# Altium footprint library SparkFun-Connectors.PCBLIB: 379 footprints (part 4 of 24)
Each footprint in its own frame and in the unit in brackets; x right, y up, seen from the top. Pads: shape width x height; smd on the part's side, far side on the other; paste and mask are expansions set on the pad; w line width, h text height; cw(c..) or ccw(c..) is an arc to the next point about the centre after c.
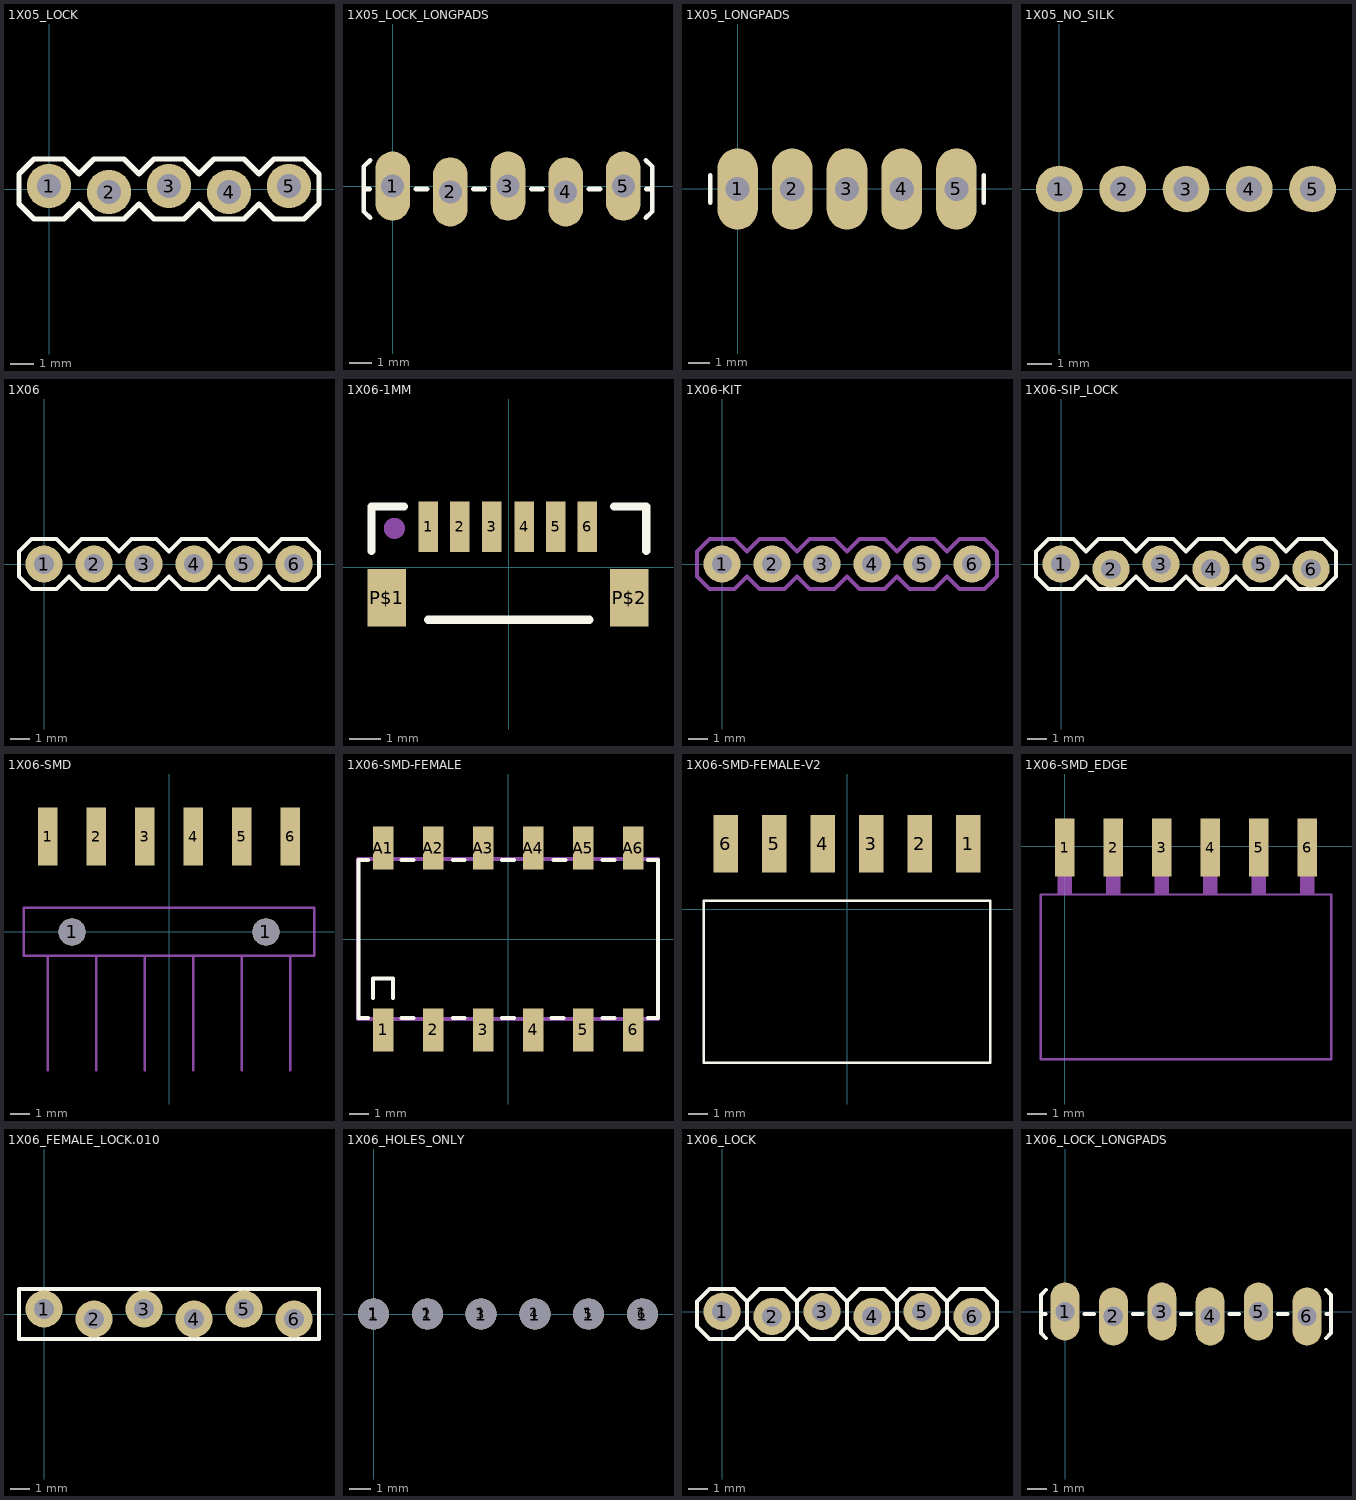
[diagram p3: the footprints below, top view; thin cyan lines are the x and y axes]

## 1X05_LOCK [mil]
pads (5):
  round 74 hole 40: 1(0,5) 2(100,-5) 3(200,5) 4(300,-5) 5(400,5)
Top Overlay:
  lines w8: -50,-25 -50,25 -25,50 25,50 50,25 75,50 125,50 150,25 175,50 225,50 250,25 275,50 325,50 350,25 375,50 425,50 450,25 450,-25 425,-50 375,-50 350,-25 325,-50 275,-50 250,-25 225,-50 175,-50 150,-25 125,-50 75,-50 50,-25 25,-50 -25,-50 -50,-25
Mechanical 2:
  text ">NAME" at -53,72 h77.5
Mechanical 4:
  text ">VALUE" at -50,-125 h77.5
Mechanical 16:
  rectangle: 390,-10 410,10
  rectangle: 290,-10 310,10
  rectangle: 190,-10 210,10
  rectangle: 90,-10 110,10
  rectangle: -10,-10 10,10

## 1X05_LOCK_LONGPADS [mil]
pads (5):
  oval 60x120 hole 40: 1(0,0) 2(100,-10) 3(200,0) 4(300,-10) 5(400,0)
Top Overlay:
  lines w8: -40,-5 -50,-5 ; -39,-55 -50,-44 -50,-5 ; -39,45 -50,34 -50,-5 ; 40,-5 60,-5 ; 140,-5 160,-5 ; 240,-5 260,-5 ; 340,-5 360,-5 ; 439,-55 450,-44 450,-5 ; 439,45 450,34 450,-5 ; 440,-5 450,-5
Mechanical 2:
  text ">NAME" at -50,70 h42.5
Mechanical 4:
  text ">VALUE" at -50,-130 h42.5
Mechanical 16:
  rectangle: -11.5,-16.5 12,7
  rectangle: 89,-16.5 112,7
  rectangle: 189,-16.5 212,7
  region: 312.25,-16.25 312.25,6.75 288.75,6.75 288.75,-16.25
  rectangle: 389,-16.5 412,7

## 1X05_LONGPADS [mil]
pads (5):
  oval 74x148 hole 44: 1(0,0) 2(100,0) 3(200,0) 4(300,0) 5(400,0)
Top Overlay:
  lines w8: -50,-25 -50,25 ; 450,-25 450,25
Mechanical 2:
  text ">NAME" at -53,72 h77.5
Mechanical 4:
  text ">VALUE" at -50,-125 h77.5
Mechanical 16:
  rectangle: 390,-10 410,10
  rectangle: 290,-10 310,10
  rectangle: 190,-10 210,10
  rectangle: 90,-10 110,10
  rectangle: -10,-10 10,10

## 1X05_NO_SILK [mil]
pads (5):
  round 74 hole 40: 1(0,0) 2(100,0) 3(200,0) 4(300,0) 5(400,0)
Mechanical 2:
  text ">NAME" at -53,72 h77.5
Mechanical 4:
  text ">VALUE" at -50,-125 h77.5
Mechanical 16:
  rectangle: 390,-10 410,10
  rectangle: 290,-10 310,10
  rectangle: 190,-10 210,10
  rectangle: 90,-10 110,10
  rectangle: -10,-10 10,10

## 1X06 [mil]
pads (6):
  round 74 hole 40: 1(0,0) 2(100,0) 3(200,0) 4(300,0) 5(400,0) 6(500,0)
Top Overlay:
  lines w8: -50,-25 -50,25 -25,50 25,50 50,25 75,50 125,50 150,25 175,50 225,50 250,25 275,50 325,50 350,25 375,50 425,50 450,25 475,50 525,50 550,25 550,-25 525,-50 475,-50 450,-25 425,-50 375,-50 350,-25 325,-50 275,-50 250,-25 225,-50 175,-50 150,-25 125,-50 75,-50 50,-25 25,-50 -25,-50 -50,-25
Mechanical 2:
  text ">NAME" at -53,72 h77.5
Mechanical 4:
  text ">VALUE" at -50,-125 h77.5
Mechanical 16:
  rectangle: 490,-10 510,10
  rectangle: 390,-10 410,10
  rectangle: 290,-10 310,10
  rectangle: 190,-10 210,10
  rectangle: 90,-10 110,10
  rectangle: -10,-10 10,10

## 1X06-1MM [mil]
pads (8):
  rect 24x62 smd: 1(-100,50) 2(-60.63,50) 3(-21.26,50) 4(19,50) 5(58,50) 6(97,50)
  rect 48x71 smd: P$1(-151.18,-37.6) P$2(149,-37.6)
Top Overlay:
  lines w10: -170,20 -170,75 -130,75 ; -100,-65 100,-65 ; 130,75 170,75 170,20
Mechanical 2:
  text ">Name" at -50,100 h24.8
Mechanical 4:
  text ">VALUE" at -50,-100 h24.8
Mechanical 16:
  circle w16: c-141.73,48 r5

## 1X06-KIT [mil]
pads (6):
  round 74 hole 40: 1(0,0) 2(100,0) 3(200,0) 4(300,0) 5(400,0) 6(500,0)
Top Solder:
  region: 0,0 10,0 10,10 0,10
  region: 0,0 10,0 10,10 0,10
  region: 0,0 10,0 10,10 0,10
  region: 0,0 10,0 10,10 0,10
  region: 0,0 10,0 10,10 0,10
  region: 0,0 10,0 10,10 0,10
Bottom Solder:
  region: 0,0 10,0 10,10 0,10
  region: 0,0 10,0 10,10 0,10
  region: 0,0 10,0 10,10 0,10
  region: 0,0 10,0 10,10 0,10
  region: 0,0 10,0 10,10 0,10
  region: 0,0 10,0 10,10 0,10
Mechanical 2:
  text ">NAME" at -53,72 h77.5
Mechanical 4:
  text ">VALUE" at -50,-125 h77.5
Mechanical 16:
  rectangle: 490,-10 510,10
  rectangle: 390,-10 410,10
  rectangle: 290,-10 310,10
  rectangle: 190,-10 210,10
  rectangle: 90,-10 110,10
  rectangle: -10,-10 10,10
  lines w8: -50,-25 -50,25 -25,50 25,50 50,25 75,50 125,50 150,25 175,50 225,50 250,25 275,50 325,50 350,25 375,50 425,50 450,25 475,50 525,50 550,25 550,-25 525,-50 475,-50 450,-25 425,-50 375,-50 350,-25 325,-50 275,-50 250,-25 225,-50 175,-50 150,-25 125,-50 75,-50 50,-25 25,-50 -25,-50 -50,-25

## 1X06-SIP_LOCK [mil]
pads (6):
  round 74 hole 40: 1(0,0) 2(100,-10) 3(200,0) 4(300,-10) 5(400,0) 6(500,-10)
Top Overlay:
  lines w8: -50,-25 -50,25 -25,50 25,50 50,25 75,50 125,50 150,25 175,50 225,50 250,25 275,50 325,50 350,25 375,50 425,50 450,25 475,50 525,50 550,25 550,-25 525,-50 475,-50 450,-25 425,-50 375,-50 350,-25 325,-50 275,-50 250,-25 225,-50 175,-50 150,-25 125,-50 75,-50 50,-25 25,-50 -25,-50 -50,-25
Mechanical 2:
  text ">NAME" at -50,60 h42.5
Mechanical 4:
  text ">VALUE" at -50,-115 h42.5
Mechanical 16:
  rectangle: -11.5,-16.5 12,7
  rectangle: 89,-16.5 112,7
  rectangle: 189,-16.5 212,7
  rectangle: 289,-16.5 312,7
  rectangle: 389,-16.5 412,7
  rectangle: 489,-16.5 512,7

## 1X06-SMD [mil]
pads (8):
  rect 40x119 smd: 1(-250,197) 2(-150,197) 3(-50,197) 4(50,197) 5(150,197) 6(250,197)
  round 56 hole 56: 1(-200,0) 1(200,0)
Mechanical 2:
  text ">NAME" at -75,75 h49.6
Mechanical 4:
  text ">VALUE" at -75,25 h49.6
Mechanical 16:
  lines w5: -250,-285.43 -250,-49.21 ; -150,-285.43 -150,-49.21 ; -50,-285.43 -50,-49.21 ; 50,-285.43 50,-49.21 ; 150,-285.43 150,-49.21 ; 250,-285.43 250,-49.21 ; -250,-49.21 -300,-49.21 -300,50 300,50 300,-49.21 250,-49.21 ; -250,-49.21 -150,-49.21 ; -150,-49.21 -50,-49.21 ; -50,-49.21 50,-49.21 ; 50,-49.21 150,-49.21 ; 150,-49.21 250,-49.21

## 1X06-SMD-FEMALE [mil]
pads (12):
  rect 41x86 smd: 1(-250,-181.89) 2(-150,-181.89) 3(-50,-181.89) 4(50,-181.89) 5(150,-181.89) 6(250,-181.89) A1(-250,182) A2(-150,182) A3(-50,182) A4(50,182) A5(150,182) A6(250,182)
Top Overlay:
  lines w8: -279.53,-157.48 -299.21,-157.48 -299.21,158 -279.53,158 ; -269.69,-118.11 -269.69,-78.74 -230.31,-78.74 -230.31,-118.11 ; -212.6,-157.48 -188.98,-157.48 ; -212.6,158 -188.98,158 ; -110.24,-157.48 -86.61,-157.48 ; -110.24,158 -86.61,158 ; -11.81,-157.48 12,-157.48 ; -11.81,158 12,158 ; 87,-157.48 111,-157.48 ; 91,158 115,158 ; 189,-157.48 213,-157.48 ; 189,158 213,158 ; 280,-157.48 300,-157.48 300,158 280,158
Mechanical 16:
  lines w8: -300,-159.45 300,-159.45 300,160 -300,160 -300,-159.45

## 1X06-SMD-FEMALE-V2 [mil]
pads (6):
  rect 50x119 smd: 1(250,135) 2(150,135) 3(50,135) 4(-50,135) 5(-150,135) 6(-250,135)
Top Overlay:
  lines w5: -295.28,-316.93 -295.28,18 296,18 296,-316.93 -295.28,-316.93
Mechanical 2:
  text ">Name" at -291.34,-366.14 h62
Mechanical 4:
  text ">Value" at 300,-326.77 h62

## 1X06-SMD_EDGE [mil]
pads (6):
  rect 40x119 smd: 1(0,-3.15) 2(100,-3.15) 3(200,-3.15) 4(300,-3.15) 5(400,-3.15) 6(500,-3.15)
Mechanical 16:
  rectangle: -15,-98 15,11
  rectangle: 85,-98 115,11
  rectangle: 185,-98 215,11
  rectangle: 285,-98 315,11
  rectangle: 385,-98 415,11
  rectangle: 485,-98 515,11
  lines w5: -50,-440 -50,-100 550,-100 550,-440 -50,-440
  text "thru-hole vertical Female Header" at 0,-250 h24.8
  text "used as an SMD part" at 0,-300 h24.8
  text "(placed horizontally, at board's edge)" at 0,-350 h24.8

## 1X06_FEMALE_LOCK.010 [mil]
pads (6):
  round 74 hole 40: 1(0,10) 2(100,-10) 3(200,10) 4(300,-10) 5(400,10) 6(500,-10)
Top Overlay:
  lines w8: -50,-50 -50,50 550,50 550,-50 -50,-50
Mechanical 2:
  text ">NAME" at -53,72 h77.5
Mechanical 4:
  text ">VALUE" at -50,-125 h77.5
Mechanical 16:
  rectangle: -12.5,-7.5 13,8
  rectangle: 88,-7.5 113,8
  rectangle: 188,-7.5 213,8
  rectangle: 288,-7.5 313,8
  rectangle: 388,-7.5 413,8
  rectangle: 488,-7.5 513,8

## 1X06_HOLES_ONLY [mil]
pads (12):
  round 32 hole 35: 1(0,0) 2(100,0) 3(200,0) 4(300,0) 5(400,0) 6(500,0)
  round 58 hole 58: 1(0,0) 1(100,0) 1(200,0) 1(300,0) 1(400,0) 1(500,0)
Mechanical 16:
  circle w5: c0,0 r25
  circle w5: c100,0 r25
  circle w5: c200,0 r25
  circle w5: c300,0 r25
  circle w5: c400,0 r25
  circle w5: c500,0 r25

## 1X06_LOCK [mil]
pads (6):
  round 74 hole 40: 1(0,0) 2(100,-10) 3(200,0) 4(300,-10) 5(400,0) 6(500,-10)
Top Overlay:
  lines w8: 50,-30 75,-55 125,-55 150,-30 ; 50,-30 25,-55 -25,-55 -50,-30 -50,20 -25,45 25,45 50,20 ; 50,-30 50,20 ; 50,20 75,45 125,45 150,20 ; 150,-30 175,-55 225,-55 250,-30 ; 150,-30 150,20 ; 150,20 175,45 225,45 250,20 ; 250,-30 275,-55 325,-55 350,-30 ; 250,-30 250,20 ; 250,20 275,45 325,45 350,20 ; 350,-30 375,-55 425,-55 450,-30 ; 350,-30 350,20 ; 350,20 375,45 425,45 450,20 ; 450,-30 475,-55 525,-55 550,-30 550,20 525,45 475,45 450,20 ; 450,-30 450,20
Mechanical 2:
  text ">NAME" at -50,70 h42.5
Mechanical 4:
  text ">VALUE" at -50,-130 h42.5
Mechanical 16:
  rectangle: -11.5,-16.5 12,7
  rectangle: 89,-16.5 112,7
  rectangle: 189,-16.5 212,7
  rectangle: 289,-16.5 312,7
  rectangle: 389,-16.5 412,7
  rectangle: 489,-16.5 512,7

## 1X06_LOCK_LONGPADS [mil]
pads (6):
  oval 60x120 hole 40: 1(0,0) 2(100,-10) 3(200,0) 4(300,-10) 5(400,0) 6(500,-10)
Top Overlay:
  lines w8: -40,-5 -50,-5 ; -39,-55 -50,-44 -50,-5 ; -39,45 -50,34 -50,-5 ; 40,-5 60,-5 ; 140,-5 160,-5 ; 240,-5 260,-5 ; 340,-5 360,-5 ; 440,-5 460,-5 ; 539,-55 550,-44 550,-5 ; 539,45 550,34 550,-5 ; 540,-5 550,-5
Mechanical 2:
  text ">NAME" at -50,70 h42.5
Mechanical 4:
  text ">VALUE" at -50,-130 h42.5
Mechanical 16:
  rectangle: -11.5,-16.5 12,7
  rectangle: 89,-16.5 112,7
  rectangle: 189,-16.5 212,7
  region: 312.25,-16.25 312.25,6.75 288.75,6.75 288.75,-16.25
  rectangle: 389,-16.5 412,7
  rectangle: 489,-16.5 512,7